# Altium footprint library PCBlib.PcbLib: 19 footprints (part 1 of 2)
Each footprint in its own frame and in the unit in brackets; x right, y up, seen from the top. Pads: shape width x height; smd on the part's side, far side on the other; paste and mask are expansions set on the pad; w line width, h text height; cw(c..) or ccw(c..) is an arc to the next point about the centre after c.
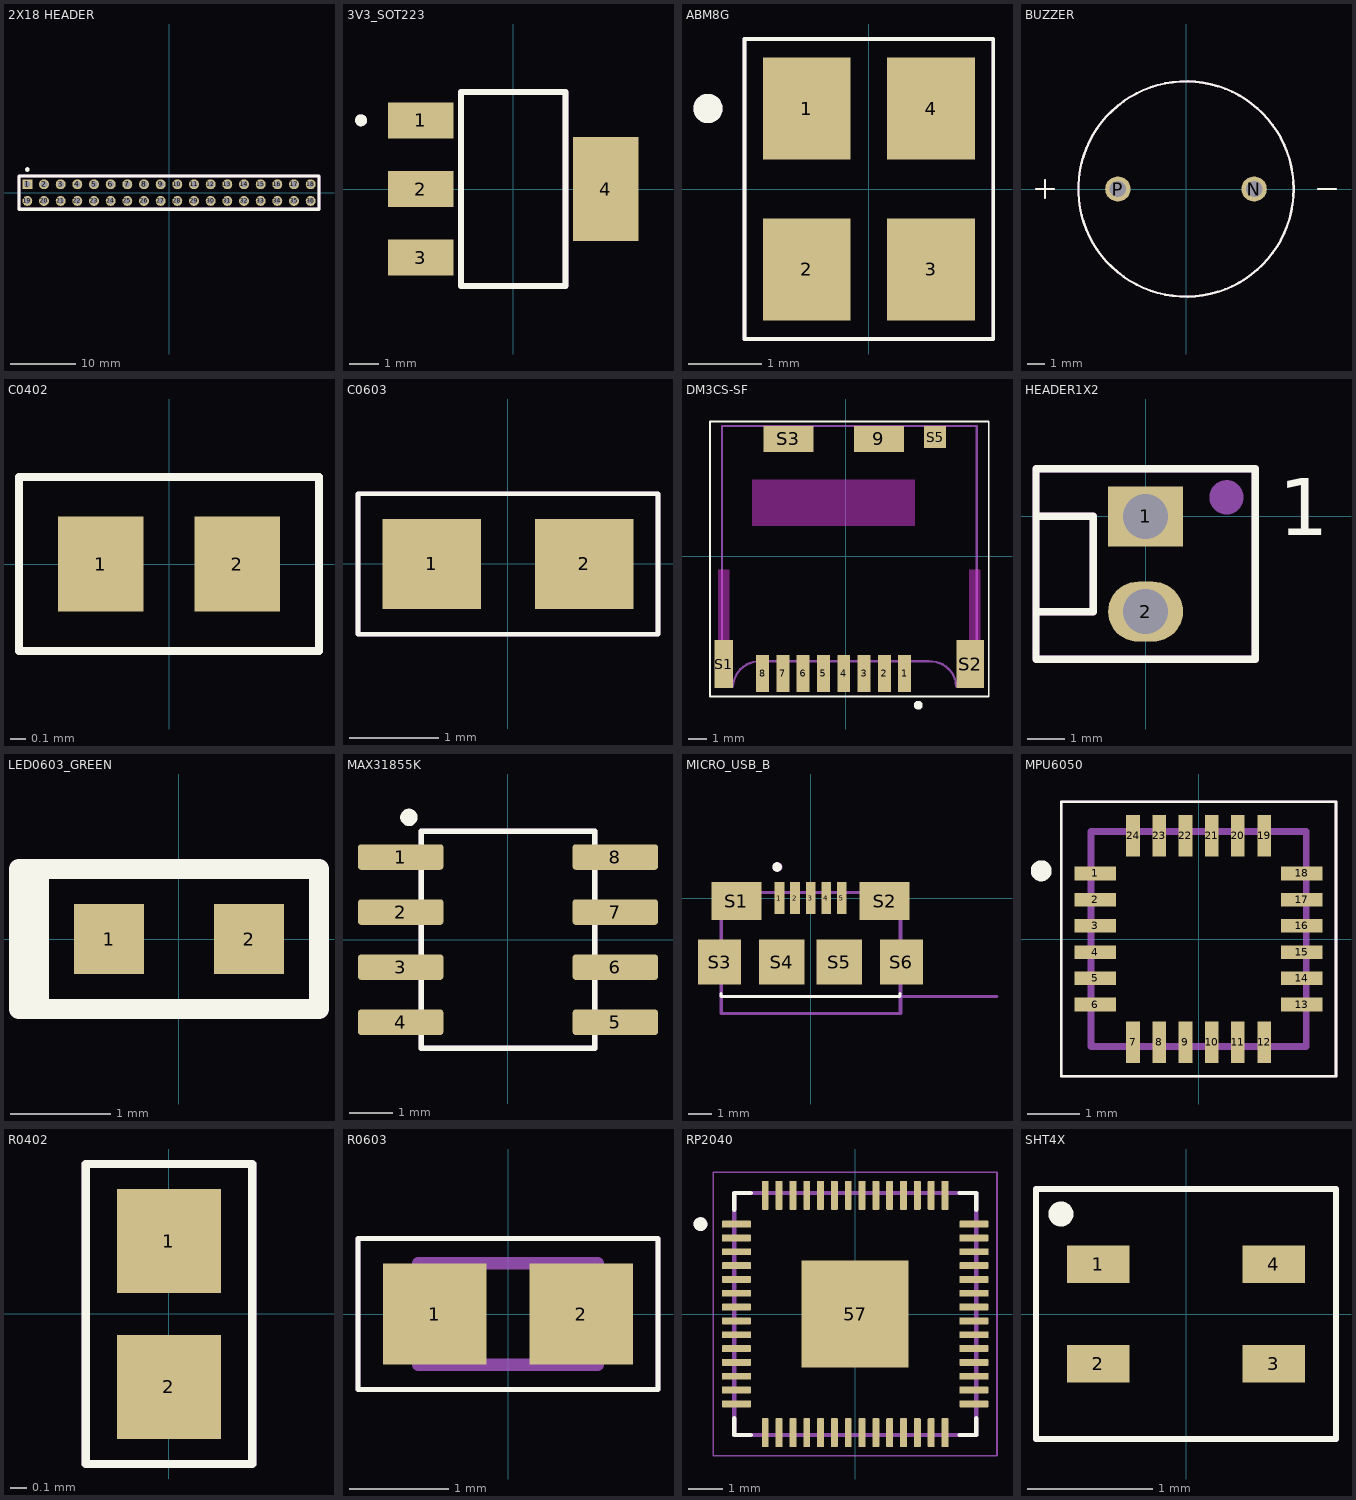
[diagram p0: the footprints below, top view; thin cyan lines are the x and y axes]

## 2X18 HEADER [mm] "36 PIN 2 ROW 2.54 MALE HEADER"
pads (36):
  rect 1.508x1.508 hole 1: 1(-21.59,1.27)
  round 1.508 hole 1: 2(-19.05,1.27) 3(-16.51,1.27) 4(-13.97,1.27) 5(-11.43,1.27) 6(-8.89,1.27) 7(-6.35,1.27) 8(-3.81,1.27) 9(-1.27,1.27) 10(1.27,1.27) 11(3.81,1.27) 12(6.35,1.27) 13(8.89,1.27) 14(11.43,1.27) 15(13.97,1.27) 16(16.51,1.27) 17(19.05,1.27) 18(21.59,1.27) 19(-21.59,-1.27) 20(-19.05,-1.27) 21(-16.51,-1.27) 22(-13.97,-1.27) 23(-11.43,-1.27) 24(-8.89,-1.27) 25(-6.35,-1.27) 26(-3.81,-1.27) 27(-1.27,-1.27) 28(1.27,-1.27) 29(3.81,-1.27) 30(6.35,-1.27) 31(8.89,-1.27) 32(11.43,-1.27) 33(13.97,-1.27) 34(16.51,-1.27) 35(19.05,-1.27) 36(21.59,-1.27)
Top Overlay:
  circle w0.5: c-21.59,3.52 r0.1
  lines w0.5: -22.86,-2.52 22.86,-2.52 22.86,2.52 -22.86,2.52 -22.86,-2.52
Top Assembly:
  lines w0.5: -22.86,-2.52 22.86,-2.52 22.86,2.52 -22.86,2.52 -22.86,-2.52
  text ".Designator" at -4.998,-0.333 h1
Mechanical 13:
  circle w0.2: c-21.59,3.52 r0.1
  lines w0.127: -22.86,-2.52 22.86,-2.52 22.86,2.52 -22.86,2.52 -22.86,-2.52

## 3V3_SOT223 [mm] "Regulador de voltaje lineal"
height 1.85
pads (4):
  rect 2.2x1.2 smd: 1(-3.1,2.3) 2(-3.1,0) 3(-3.1,-2.3)
  rect 2.2x3.5 smd: 4(3.1,0)
Top Overlay:
  circle w0.2: c-5.1,2.3 r0.1
  lines w0.2: -1.75,-3.25 -1.75,3.25 1.75,3.25 1.75,2.1 1.75,-2.1 1.75,-3.25 -1.75,-3.25
Top Assembly:
  circle w0.2: c-5.1,2.3 r0.1
  lines w0.2: -1.75,-3.25 -1.75,3.25 1.75,3.25 1.75,2.1 1.75,-2.1 1.75,-3.25 -1.75,-3.25
  text ".Designator" at -5.024,-0.282 h1
Mechanical 13:
  circle w0.2: c-5.1,2.3 r0.1
  lines w0.1: -1.75,-3.25 -1.75,3.25 1.75,3.25 1.75,-3.25 -1.75,-3.25
3D body "step_temp.STEP": height 1.65, standoff 0, extent -3.5,-3.25 3.5,3.25

## ABM8G [mm] "SMD XTAL 12MHz"
height 1
pads (4):
  rect 1.2x1.4 smd: 1(-0.85,1.1) 2(-0.85,-1.1) 3(0.85,-1.1) 4(0.85,1.1)
Top Overlay:
  circle w0.2: c-2.2,1.1 r0.1
  lines w0.05: -1.7,-2.05 -1.7,2.05 1.7,2.05 1.7,-2.05 -1.7,-2.05
Top Assembly:
  circle w0.2: c-2.2,1.1 r0.1
  lines w0.05: -1.7,-2.05 -1.7,2.05 1.7,2.05 1.7,-2.05 -1.7,-2.05
  text ".Designator" at -2.499,-0.167 h0.5
3D body "step_temp.STEP": height 0.99, standoff 0, extent -1.6,-1.245 1.6,1.245

## BUZZER [mm]
pads (2):
  round 1.408 hole 0.9: N(3.8,0) P(-3.8,0)
Top Overlay:
  circle w0.127: c0,0 r6
  lines w0.127: -8.36,0 -7.36,0 ; -7.86,-0.5 -7.86,0.5 ; 7.36,0 8.36,0
Top Assembly:
  circle w0.127: c0,0 r6
  text ".Designator" at -4.998,-0.333 h1
Mechanical 13:
  circle w0.127: c0,0 r6
  lines w0.127: -8.36,0 -7.36,0 ; -7.86,-0.5 -7.86,0.5 ; 7.36,0 8.36,0
3D body "Buzzer_Active.stp": height 9.6, standoff -2.6, extent -6.013,-5.925 5.837,5.922

## C0402 [mm]
pads (2):
  rect 0.54x0.6 smd: 1(-0.432,0) 2(0.432,0)
Top Overlay:
  lines w0.05: -0.95,-0.55 0.95,-0.55 0.95,0.55 -0.95,0.55 -0.95,-0.55
Top Assembly:
  lines w0.05: -0.95,-0.55 0.95,-0.55 0.95,0.55 -0.95,0.55 -0.95,-0.55
  text ".Designator" at -1.5,-0.1 h0.3
Mechanical 15:
  lines w0.05: -0.95,-0.55 0.95,-0.55 0.95,0.55 -0.95,0.55 -0.95,-0.55
3D body "CAP0402.step": height 0.55, standoff 0, extent -0.525,-0.271 0.525,0.279

## C0603 [mm]
pads (2):
  rect 1.1x1 smd: 1(-0.85,0) 2(0.85,0)
Top Overlay:
  lines w0.051: -1.673,-0.783 1.673,-0.783 1.673,0.783 -1.673,0.783 -1.673,-0.783
Top Assembly:
  lines w0.051: -1.673,-0.783 1.673,-0.783 1.673,0.783 -1.673,0.783 -1.673,-0.783
  text ".Designator" at -2.499,-0.167 h0.5
Mechanical 15:
  lines w0.051: -1.673,-0.783 1.673,-0.783 1.673,0.783 -1.673,0.783 -1.673,-0.783
3D body "CAP0603.STEP": height 0.77, standoff -0.03, extent -0.8,-0.432 0.8,0.438

## DM3CS-SF [mm] "CONN MICRO SD CARD HINGED TYPE"
pads (13):
  rect 0.7x2 smd: 1(3.2,-6.35) 2(2.1,-6.35) 3(1,-6.35) 4(-0.1,-6.35) 5(-1.2,-6.35) 6(-2.3,-6.35) 7(-3.4,-6.35) 8(-4.5,-6.35)
  rect 2.7x1.4 smd: 9(1.8,6.35) S3(-3.1,6.35)
  rect 1x2.6 smd: S1(-6.6,-5.85)
  rect 1.5x2.6 smd: S2(6.75,-5.85)
  rect 1.2x1.2 smd: S5(4.85,6.45)
Top Overlay:
  circle w0.24: c3.937,-8.077 r0.12
  lines w0.1: -7.35,-7.6 7.75,-7.6 7.75,7.3 -7.35,7.3 -7.35,-7.6
Keep-Out Layer:
  region: 7.3,-4.558 6.712,-4.558 6.712,-0.75 7.3,-0.75
  region: -6.3,-4.558 -6.912,-4.558 -6.912,-0.75 -6.3,-0.75
  region: 7.3,-4.556 6.709,-4.556 6.709,-0.75 7.3,-0.75
  region: -6.3,-4.558 -6.912,-4.558 -6.912,-0.75 -6.3,-0.75
  region: 3.75,1.651 -5.053,1.651 -5.053,4.15 3.75,4.15
  region: 3.75,1.65 -5.051,1.65 -5.051,4.15 3.75,4.15
Top Assembly:
  lines w0.05: -7.35,-7.6 7.75,-7.6 7.75,7.3 -7.35,7.3 -7.35,-7.6
  text ".Designator" at -5.049,-0.308 h1
Mechanical 13:
  lines w0.127: 4.5,-5.7 -4.6,-5.7 ccw(c-4.675,-7.125) -6.1,-7.05 -6.7,-7.05 -6.7,7.05 7.1,7.05 7.1,-7.05 6,-7.05 ccw(c4.575,-7.125) 4.5,-5.7
Mechanical 15:
  lines w0.05: -7.35,-7.6 7.75,-7.6 7.75,7.3 -7.35,7.3 -7.35,-7.6
3D body "DM3CS-SF.step": height 2.04, standoff -0.09, extent -6.9,-7.05 6.9,7.05

## HEADER1X2 [mm]
pads (2):
  rect 2x1.6 hole 1.2: 1(0,0)
  oval 2x1.6 hole 1.2: 2(0,-2.54)
Top Overlay:
  lines w0.2: -2.921,-2.54 -1.397,-2.54 -1.397,0 -2.921,0 ; -2.921,-3.81 -2.921,1.27 2.921,1.27 2.921,-3.81 -2.921,-3.81
  text "1" at 3.556,-0.508 h1.52
Top Assembly:
  circle w0.508: c2.159,0.508 r0.203
  lines w0.2: -2.921,-2.54 -1.397,-2.54 -1.397,0 -2.921,0 ; -2.921,-3.81 -2.921,1.27 2.921,1.27 2.921,-3.81 -2.921,-3.81
  text ".Designator" at -6.023,-1.686 h1.2
3D body "HEADER1X2.step": height 11.71, standoff -3.55, extent -2.88,-3.81 2.92,1.27

## LED0603_GREEN [mm]
pads (2):
  rect 0.7x0.7 smd: 1(-0.7,0) 2(0.7,0)
Top Overlay:
  rectangle: -1.6,-0.7 -1.3,0.7
  lines w0.2: -1.6,-0.7 1.4,-0.7 1.4,0.7 -1.6,0.7 -1.6,-0.7
Top Assembly:
  rectangle: -1.6,-0.7 -1.3,0.7
  lines w0.2: -1.6,-0.7 1.4,-0.7 1.4,0.7 -1.6,0.7 -1.6,-0.7
  text ".Designator" at -3.499,-0.233 h0.7
3D body "LED.step": height 0.59, standoff 0.01, extent -0.8,-0.4 0.8,0.4

## MAX31855K [mm] "IC CONV THERMOCOUPLE-DGTL SOIC"
pads (8):
  rrect25% 1.97x0.59 smd: 1(-2.475,1.905) 2(-2.475,0.635) 3(-2.475,-0.635) 4(-2.475,-1.905) 5(2.475,-1.905) 6(2.475,-0.635) 7(2.475,0.635) 8(2.475,1.905)
Top Overlay:
  circle w0.2: c-2.286,2.819 r0.1
  lines w0.127: -2,-2.5 2,-2.5 2,2.5 -2,2.5 -2,-2.5
Top Assembly:
  lines w0.127: -2,-2.5 2,-2.5 2,2.5 -2,2.5 -2,-2.5
  text ".Designator" at -3.499,-0.259 h0.7
3D body "MAX31855KASA_T.step": height 1.76, standoff 0.01, extent -3,-2.45 3,2.45

## MICRO_USB_B [mm]
height 2.8
pads (11):
  rect 0.4x1.35 smd: 1(-1.3,0) 2(-0.65,0) 3(0,0) 4(0.65,0) 5(1.3,0)
  rect 2.1x1.6 smd: S1(-3.1,-0.125) S2(3.1,-0.125)
  rect 1.8x1.9 smd: S3(-3.8,-2.675) S6(3.8,-2.675)
  rect 1.9x1.9 smd: S4(-1.2,-2.675) S5(1.2,-2.675)
Top Overlay:
  circle w0.2: c-1.4,1.3 r0.1
  lines w0.127: -3.75,-4 -3.75,-4.125 3.75,-4.125 3.75,-4
Top Assembly:
  circle w0.2: c-1.375,1.3 r0.1
  lines w0.127: -3.725,-4.825 3.775,-4.825 3.775,-4.125 3.775,0.225 -3.725,0.225 -3.725,-4.125 -3.725,-4.825
  text ".Designator" at -5.049,-2.238 h1
Mechanical 13:
  circle w0.2: c-1.4,1.3 r0.1
  lines w0.127: 7.8,-4.125 3.75,-4.125 ; -3.75,-4.125 -3.75,-4.825 3.75,-4.825 3.75,-4.125 ; -3.75,-4.125 -3.75,0.225 3.75,0.225 3.75,-4.125 ; -3.75,-4.125 3.75,-4.125
  text "Borde PCB" at 5.1,-3.8 h0.41
3D body "step_temp.STEP": height 2.7, standoff 0, extent -3.95,-4.825 3.95,0.275
3D body "step_temp.STEP": height 2.7, standoff 0, extent -3.925,-4.825 3.975,0.275

## MPU6050 [mm] "IMU ACCEL/GYRO 3-AXIS I2C 24QFN"
pads (24):
  rect 0.79x0.26 smd: 1(-1.97,1.25) 2(-1.97,0.75) 3(-1.97,0.25) 4(-1.97,-0.25) 5(-1.97,-0.75) 6(-1.97,-1.25) 13(1.97,-1.25) 14(1.97,-0.75) 15(1.97,-0.25) 16(1.97,0.25) 17(1.97,0.75) 18(1.97,1.25)
  rect 0.26x0.79 smd: 7(-1.25,-1.97) 8(-0.75,-1.97) 9(-0.25,-1.97) 10(0.25,-1.97) 11(0.75,-1.97) 12(1.25,-1.97) 19(1.25,1.97) 20(0.75,1.97) 21(0.25,1.97) 22(-0.25,1.97) 23(-0.75,1.97) 24(-1.25,1.97)
Top Overlay:
  circle w0.2: c-3,1.3 r0.1
  lines w0.05: -2.62,-2.62 2.62,-2.62 2.62,2.62 -2.62,2.62 -2.62,-2.62
Top Assembly:
  lines w0.05: -2.62,-2.62 2.62,-2.62 2.62,2.62 -2.62,2.62 -2.62,-2.62
  text ".Designator" at -4.998,-0.359 h1
Mechanical 13:
  lines w0.127: -2.05,-2.05 2.05,-2.05 2.05,2.05 -2.05,2.05 -2.05,-2.05
3D body "step_temp.STEP": height 0.93, standoff -0.02, extent -2,-2 2,2

## R0402 [mil]
pads (2):
  rect 25x25 smd: 1(0,17.5) 2(0,-17.5)
Top Overlay:
  lines w1.97: -20,-36 -20,36 20,36 20,-36 -20,-36
Top Assembly:
  lines w1.97: -20,-36 -20,36 20,36 20,-36 -20,-36
  text ".Designator" at -98.39,-6.56 h19.68
3D body "RES0402.step": height 16.25, standoff 0.5, extent -9.84,-19.68 9.84,19.68

## R0603 [mm]
pads (2):
  rect 1.04x1.02 smd: 1(-0.735,0) 2(0.735,0)
Top Overlay:
  lines w0.05: -1.508,-0.761 -1.508,0.761 1.508,0.761 1.508,-0.761 -1.508,-0.761
Top Assembly:
  lines w0.05: -1.508,-0.761 -1.508,0.761 1.508,0.761 1.508,-0.761 -1.508,-0.761
  text ".Designator" at -2.499,-0.167 h0.5
Mechanical 13:
  lines w0.127: -0.9,-0.51 -0.9,0.51 0.9,0.51 0.9,-0.51 -0.9,-0.51
3D body "step_temp.STEP": height 0.55, standoff 0, extent -0.8,-0.4 0.8,0.4

## RP2040 [mm] "IC MCU 32BIT EXT MEM 56QFN"
height 0.9
pads (57):
  rrect25% 0.84x0.2 smd mask+0.05: 1(-3.435,2.6) 2(-3.435,2.2) 3(-3.435,1.8) 4(-3.435,1.4) 5(-3.435,1) 6(-3.435,0.6) 7(-3.435,0.2) 8(-3.435,-0.2) 9(-3.435,-0.6) 10(-3.435,-1) 11(-3.435,-1.4) 12(-3.435,-1.8) 13(-3.435,-2.2) 14(-3.435,-2.6) 29(3.435,-2.6) 30(3.435,-2.2) 31(3.435,-1.8) 32(3.435,-1.4) 33(3.435,-1) 34(3.435,-0.6) 35(3.435,-0.2) 36(3.435,0.2) 37(3.435,0.6) 38(3.435,1) 39(3.435,1.4) 40(3.435,1.8) 41(3.435,2.2) 42(3.435,2.6)
  rrect25% 0.2x0.84 smd mask+0.05: 15(-2.6,-3.435) 16(-2.2,-3.435) 17(-1.8,-3.435) 18(-1.4,-3.435) 19(-1,-3.435) 20(-0.6,-3.435) 21(-0.2,-3.435) 22(0.2,-3.435) 23(0.6,-3.435) 24(1,-3.435) 25(1.4,-3.435) 26(1.8,-3.435) 27(2.2,-3.435) 28(2.6,-3.435) 43(2.6,3.435) 44(2.2,3.435) 45(1.8,3.435) 46(1.4,3.435) 47(1,3.435) 48(0.6,3.435) 49(0.2,3.435) 50(-0.2,3.435) 51(-0.6,3.435) 52(-1,3.435) 53(-1.4,3.435) 54(-1.8,3.435) 55(-2.2,3.435) 56(-2.6,3.435)
  rect 3.1x3.1 smd paste-0.57 mask+0.05: 57(0,0)
Top Overlay:
  circle w0.2: c-4.475,2.6 r0.1
  lines w0.127: -3.5,-3.02 -3.5,-3.5 -3.02,-3.5 ; -3.5,3.02 -3.5,3.5 -3.02,3.5 ; 3.02,-3.5 3.5,-3.5 3.5,-3.02 ; 3.02,3.5 3.5,3.5 3.5,3.02
Mechanical 13:
  circle w0.2: c-4.475,2.6 r0.1
  lines w0.127: -3.5,-3.5 3.5,-3.5 3.5,3.5 -3.5,3.5 -3.5,-3.5
Mechanical 15:
  lines w0.05: -4.105,-4.105 4.105,-4.105 4.105,4.105 -4.105,4.105 -4.105,-4.105
3D body "QFN56_7X7_RPI.step": height 0.89, standoff 0, extent -3.505,-3.505 3.505,3.505

## SHT4X [mm]
pads (4):
  rect 0.5x0.3 smd: 1(-0.7,0.4) 2(-0.7,-0.4) 3(0.7,-0.4) 4(0.7,0.4)
Top Overlay:
  circle w0.1: c-1,0.8 r0.05
  lines w0.05: -1.2,-1 -1.2,1 1.2,1 1.2,-1 -1.2,-1
Top Assembly:
  lines w0.05: -1.2,-1 -1.2,1 1.2,1 1.2,-1 -1.2,-1
  text ".Designator" at -3.499,-0.233 h0.7
3D body "SHT40-AD1B-R3.step": height 0.55, standoff 0.01, extent -0.75,-0.751 0.75,0.751